# Altium footprint library ESV_TOS-L.PcbLib: 1 footprints
Each footprint in its own frame and in the unit in brackets; x right, y up, seen from the top. Pads: shape width x height; smd on the part's side, far side on the other; paste and mask are expansions set on the pad; w line width, h text height; cw(c..) or ccw(c..) is an arc to the next point about the centre after c.
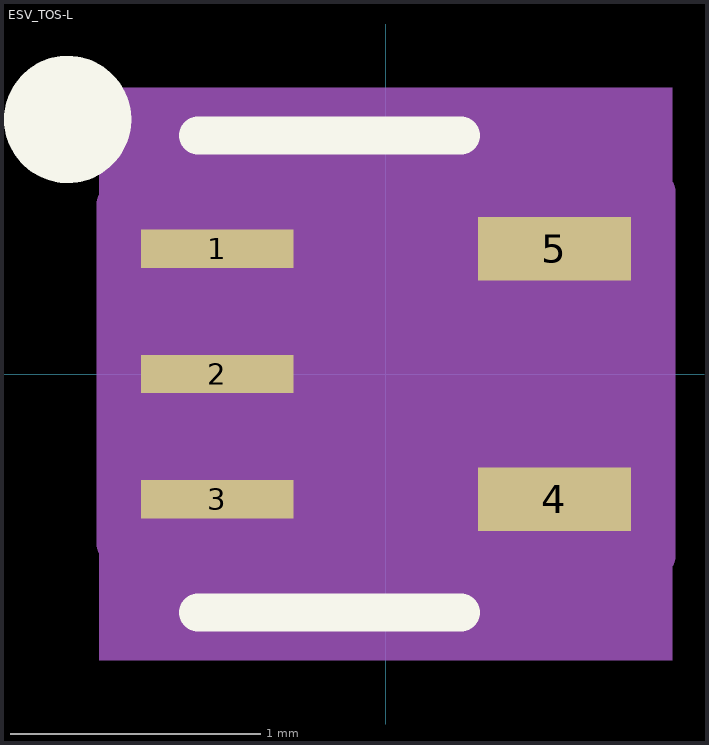
[diagram p0: the footprint, top view; thin cyan lines are the x and y axes]

## ESV_TOS-L [mil]
pads (5):
  rect 24x6 smd paste+0 mask+0: 1(-26.5,19.68) 2(-26.5,0) 3(-26.5,-19.68)
  rect 24x10 smd paste+0 mask+0: 4(26.5,-19.68) 5(26.5,19.68)
Top Overlay:
  circle w10: c-50,40 r5
  lines w6: -29.5,-37.5 11.78,-37.5 ; -29.5,37.5 11.78,37.5
Mechanical 5:
  region: 45,-45 45,45 -45,45 -45,-45
Mechanical 13:
  lines w1: -32.5,-24.68 -32.5,-14.69 -24.5,-14.69 -24.5,-24.68 -32.5,-24.68 ; -32.5,-5 -32.5,5 -24.5,5 -24.5,-5 -32.5,-5 ; -32.5,14.69 -32.5,24.68 -24.5,24.68 -24.5,14.69 -32.5,14.69 ; -24.5,-32.5 24.5,-32.5 24.5,32.5 -24.5,32.5 -24.5,-32.5 ; 24.5,-24.68 24.5,-14.69 32.5,-14.69 32.5,-24.68 24.5,-24.68 ; 24.5,14.69 24.5,24.68 32.5,24.68 32.5,14.69 24.5,14.69
  text "*" at -27,-7.32 h50
Mechanical 15:
  region: 28.5,-36.5 -28.5,-36.5 -28.5,-26.68 -42.5,-26.68 -42.5,26.68 -28.5,26.68 -28.5,36.5 28.5,36.5 28.5,28.68 42.5,28.68 42.5,-28.68 28.5,-28.68
  lines w6: -42.5,-26.68 -28.5,-26.68 -28.5,-36.5 28.5,-36.5 28.5,-28.68 42.5,-28.68 42.5,28.68 28.5,28.68 28.5,36.5 -28.5,36.5 -28.5,26.68 -42.5,26.68 -42.5,-26.68
3D body "ESV_TOS.step": height 24.09, standoff 0, extent -32.52,-32.52 32.52,32.52